# EAGLE library part MCP3551-E/SN (library AD convertor)
MCP3551-E/SN AD converter (22bit , SPI interface) 2.7V , ?-? type ADC Producted by Microchip.Co
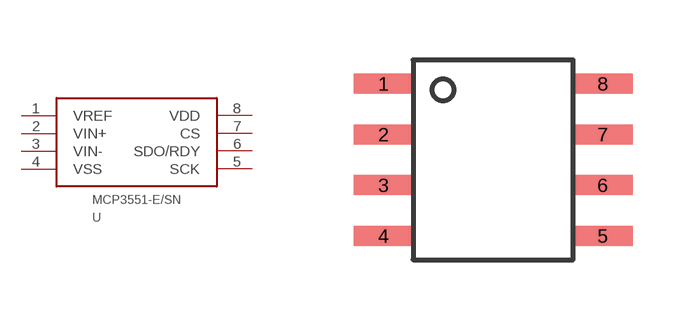
[diagram p0: symbol with the pads of SOIC(8PIN); footprint SOIC(8PIN)]

Designator prefix U

## MCP3551-E/SN  [SOIC(8PIN)]
1  VREF
2  VIN+
3  VIN-
4  VSS
5  SCK
6  SDO/RDY
7  CS
8  VDD

## Footprint SOIC(8PIN) (pad centres in mm)
4*5mm size , 0.05inch pitch , 8pin pacage
smd 1.5 x 0.5: 1 -2.73,1.905; 2 -2.73,0.635; 3 -2.73,-0.635; 4 -2.73,-1.905; 5 2.75,-1.905; 6 2.75,-0.635; 7 2.75,0.635; 8 2.75,1.905